# EAGLE library part PINHD-1X24 (library pinhead)
PIN HEADER
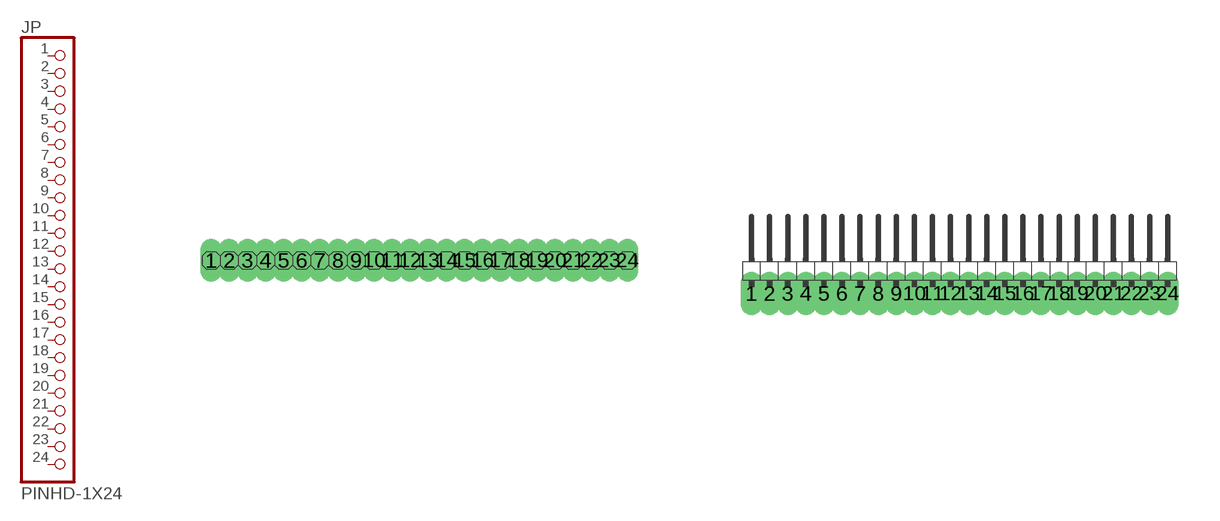
[diagram p16: symbol with the pads of 1X24; footprints 1X24, 1X24/90]

Designator prefix JP

## PINHD-1X24  [1X24]
1  1  pas
2  2  pas
3  3  pas
4  4  pas
5  5  pas
6  6  pas
7  7  pas
8  8  pas
9  9  pas
10  10  pas
11  11  pas
12  12  pas
13  13  pas
14  14  pas
15  15  pas
16  16  pas
17  17  pas
18  18  pas
19  19  pas
20  20  pas
21  21  pas
22  22  pas
23  23  pas
24  24  pas

## PINHD-1X24/90  [1X24/90]
Pads as for 1X24

## Footprint 1X24 (pad centres in mm)
PIN HEADER
drill 0.254 long: 1 -7.303,0; 2 -6.668,0; 3 -6.032,0; 4 -5.397,0; 5 -4.763,0; 6 -4.128,0; 7 -3.493,0; 8 -2.857,0; 9 -2.223,0; 10 -1.587,0; 11 -0.953,0; 12 -0.318,0; 13 0.318,0; 14 0.953,0; 15 1.587,0; 16 2.223,0; 17 2.857,0; 18 3.493,0; 19 4.128,0; 20 4.763,0; 21 5.397,0; 22 6.032,0; 23 6.668,0; 24 7.303,0

## Footprint 1X24/90 (pad centres in mm)
PIN HEADER
drill 0.254 long: 1 -7.303,-0.953; 2 -6.668,-0.953; 3 -6.032,-0.953; 4 -5.397,-0.953; 5 -4.763,-0.953; 6 -4.128,-0.953; 7 -3.493,-0.953; 8 -2.857,-0.953; 9 -2.223,-0.953; 10 -1.587,-0.953; 11 -0.953,-0.953; 12 -0.318,-0.953; 13 0.318,-0.953; 14 0.953,-0.953; 15 1.587,-0.953; 16 2.223,-0.953; 17 2.857,-0.953; 18 3.493,-0.953; 19 4.128,-0.953; 20 4.763,-0.953; 21 5.397,-0.953; 22 6.032,-0.953; 23 6.668,-0.953; 24 7.303,-0.953